# EAGLE library part VREG_5V_TS30011_3A (library 1_ZeroUI)
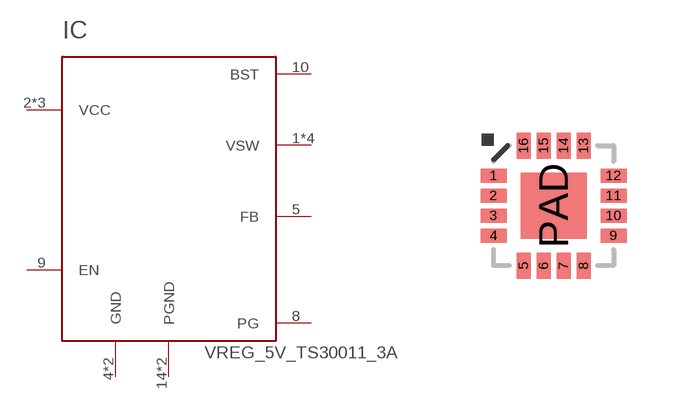
[diagram p18: symbol with the pads of QFN16G-0.5-3X3MM; footprint QFN16G-0.5-3X3MM]

Designator prefix IC

## VREG_5V_TS30011_3A (VALUE: TS30011)  [QFN16G-0.5-3X3MM]
1  VSW
2  VCC
3  VCC
4  GND
5  FB
8  PG
9  EN
10  BST
11  VCC
12  VSW
13  VSW
14  PGND
15  PGND
16  VSW
PAD  GND

## Footprint QFN16G-0.5-3X3MM (pad centres in mm)
smd 0.65 x 0.35: 1 -1.5,0.75; 2 -1.5,0.25; 3 -1.5,-0.25; 4 -1.5,-0.75; 9 1.5,-0.75; 10 1.5,-0.25; 11 1.5,0.25; 12 1.5,0.75
smd 0.35 x 0.65: 5 -0.75,-1.5; 6 -0.25,-1.5; 7 0.25,-1.5; 8 0.75,-1.5; 13 0.75,1.5; 14 0.25,1.5; 15 -0.25,1.5; 16 -0.75,1.5
smd 1.65 x 1.65: PAD 0,0